# Altium footprint library DFN132P200X80-4N.PcbLib: 1 footprints
Each footprint in its own frame and in the unit in brackets; x right, y up, seen from the top. Pads: shape width x height; smd on the part's side, far side on the other; paste and mask are expansions set on the pad; w line width, h text height; cw(c..) or ccw(c..) is an arc to the next point about the centre after c.
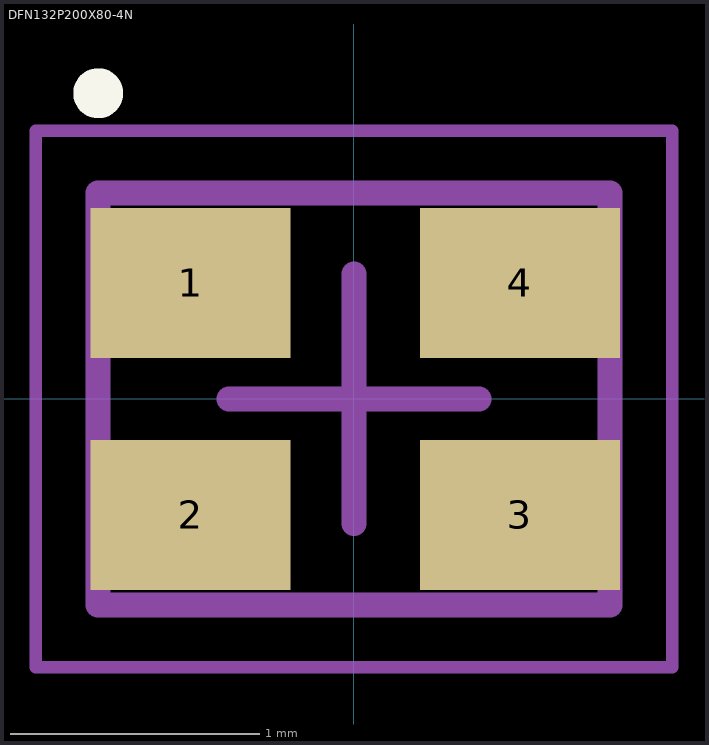
[diagram p0: the footprint, top view; thin cyan lines are the x and y axes]

## DFN132P200X80-4N [mm] "DFN, 4-Leads, Body 1.60x2.00mm, Pitch 1.32mm, IPC Medium Density"
height 0.8
pads (4):
  rect 0.8x0.6 smd: 1(-0.655,0.465) 2(-0.655,-0.465) 3(0.665,-0.465) 4(0.665,0.465)
Top Overlay:
  circle w0.1: c-1.025,1.225 r0.05
Mechanical 13:
  lines w0.1: -1.025,-0.825 -1.025,0.825 1.025,0.825 1.025,-0.825 -1.025,-0.825
Mechanical 15:
  lines w0.05: -1.275,-1.075 -1.275,1.075 1.275,1.075 1.275,-1.075 -1.275,-1.075
  lines w0.1: -0.5,0 0.5,0 ; 0,-0.5 0,0.5
3D body: height 0.8, standoff 0, extent -1.025,-0.825 1.025,0.825